# Altium schematic symbol library ModSen.SchLib: 106 symbols (part 2 of 2)
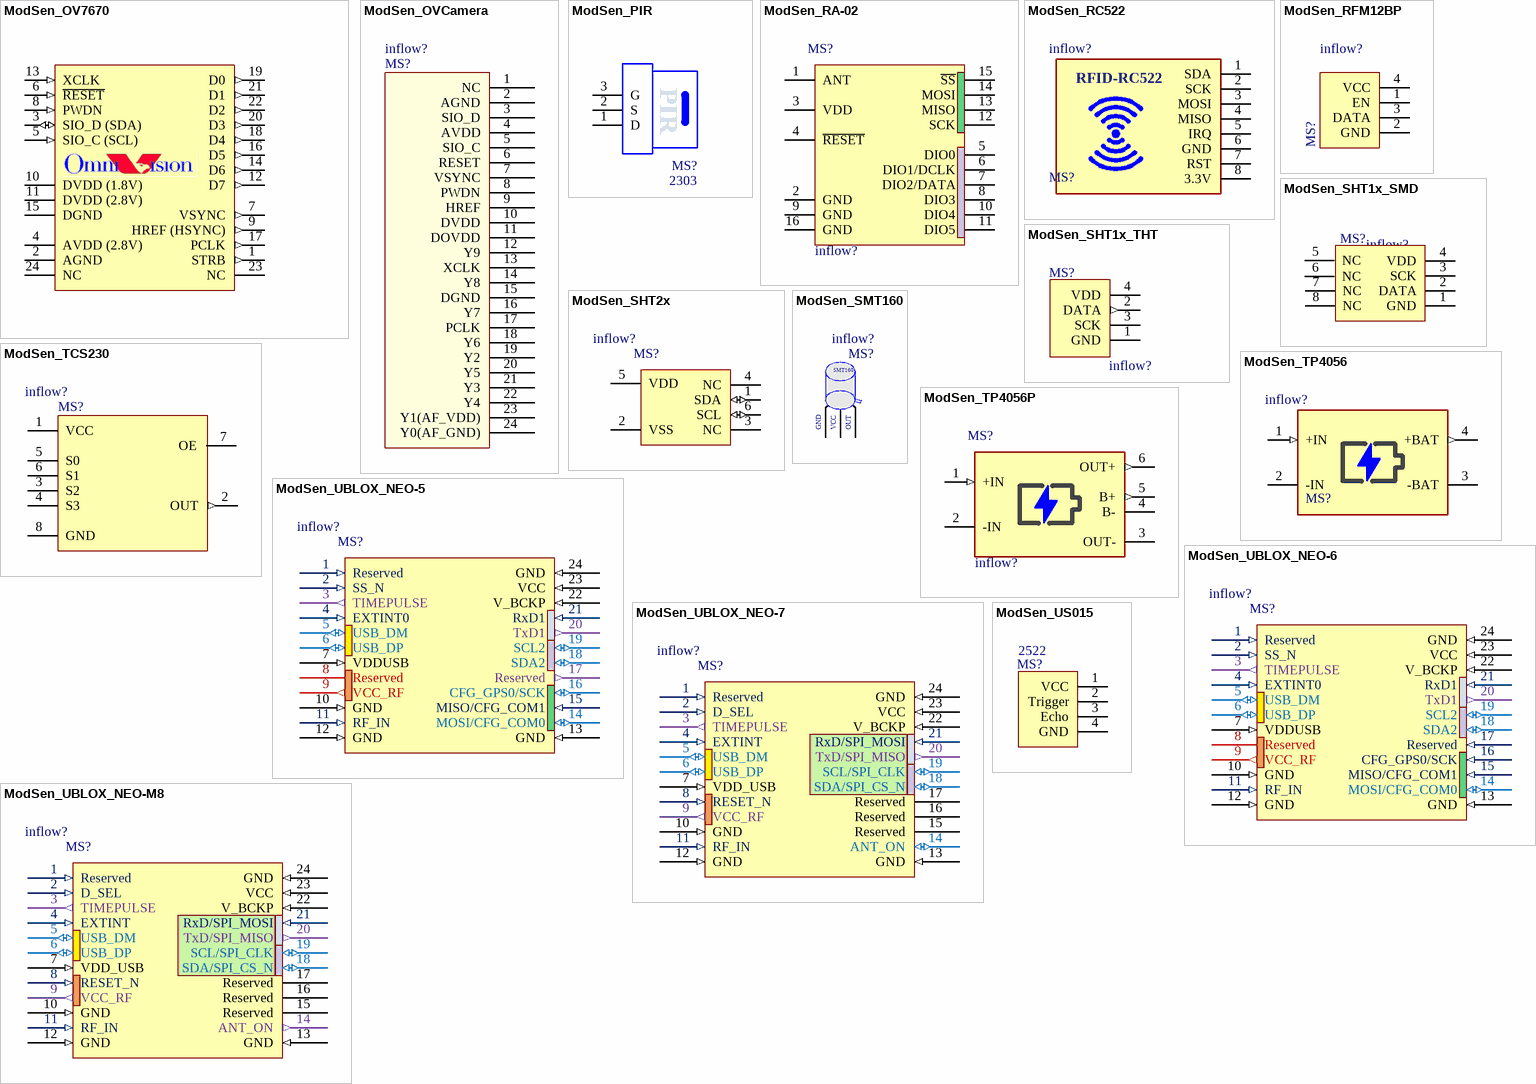
[diagram p5: symbols ModSen_OV7670 to ModSen_US015]

## ModSen_UBLOX_NEO-5
designator MS?, comment Inflow: inflow?  (hidden comment: NEO-5)
UBLOX NEO 5 Module; Rating: Rating?; Validation: NT; Value: NEO-5; Package: Package?; Type: Type?
footprint UBLOX-NEO (UBLOX GPS Module NEO 5,6,7,M8)
pins: 1 Reserved (in), 2 SS_N (in) "SPI Slave Select (Planned)", 3 TIMEPULSE (out) "Time pulse (1PPS)", 4 EXTINT0 (in) "External Interrupt Pin", 5 USB_DM (io) "USB Data", 6 USB_DP (io) "USB Data", 7 VDDUSB (in) "USB Supply", 8 Reserved "See Hardware Integration Manual, Pin 8 and 9 must be connected together.", 9 VCC_RF (out) "Output Voltage RF section, Pin 8 and 9 must be connected together.", 10 GND (in) "Ground", 11 RF_IN (in) "GPS signal input", 12 GND (in) "Ground", 13 GND (in) "Ground", 14 MOSI/CFG_COM0 (io) "SPI MOSI / Configuration Pin (Planned)", 15 MISO/CFG_COM1 (in) "SPI MISO (Planned) / Configuration Pin. Leave open if not used.", 16 CFG_GPS0/SCK (io) "Power Mode Configuration Pin. SPI Clock(Planned)", 17 Reserved (out) "Not Connected", 18 SDA2 (io) "DDC Data", 19 SCL2 (io) "DDC Clock", 20 TxD1 (out) "Serial Port 1", 21 RxD1 (in) "Serial Port 1", 22 V_BCKP (in) "Backup voltage supply", 23 VCC (in) "Supply voltage", 24 GND (in) "Ground"

## ModSen_UBLOX_NEO-6
designator MS?, comment Inflow: inflow?  (hidden comment: NEO-6)
UBLOX NEO 6 Module; Rating: Rating?; Validation: NT; Value: NEO-6; Package: Package?; Type: Type?
footprint UBLOX-NEO (UBLOX GPS Module NEO 5,6,7,M8)
pins: 1 Reserved (in), 2 SS_N (in) "SPI Slave Select", 3 TIMEPULSE (out) "Timepulse (1PPS)", 4 EXTINT0 (in) "External Interrupt Pin", 5 USB_DM (io) "USB Data", 6 USB_DP (io) "USB Data", 7 VDDUSB (in) "USB Supply", 8 Reserved "See Hardware Integration Manual, Pin 8 and 9 must be connected together.", 9 VCC_RF (out) "Output Voltage RF section, Pin 8 and 9 must be connected together.", 10 GND (in) "Ground", 11 RF_IN (in) "GPS signal input", 12 GND (in) "Ground", 13 GND (in) "Ground", 14 MOSI/CFG_COM0 (io) "SPI MOSI / Configuration Pin. Leave open if not used.", 15 MISO/CFG_COM1 (in) "SPI MISO / Configuration Pin. Leave open if not used.", 16 CFG_GPS0/SCK (in) "Power Mode Configuration Pin / SPI Clock. Leave open if not used.", 17 Reserved (in), 18 SDA2 (io) "DDC Data", 19 SCL2 (io) "DDC Clock", 20 TxD1 (out) "Serial Port 1", 21 RxD1 (in) "Serial Port 1", 22 V_BCKP (in) "Backup voltage supply", 23 VCC (in) "Supply voltage", 24 GND (in) "Ground"

## ModSen_UBLOX_NEO-7
designator MS?, comment Inflow: inflow?  (hidden comment: NEO-7)
UBLOX NEO 7 Module; Rating: Rating?; Validation: NT; Value: NEO-7; Package: Package?; Type: Type?
footprint UBLOX-NEO (UBLOX GPS Module NEO 5,6,7,M8)
pins: 1 Reserved (in), 2 D_SEL (in) "Interface select", 3 TIMEPULSE (out) "Time pulse (1PPS)", 4 EXTINT (in) "External Interrupt Pin", 5 USB_DM (io) "USB Data", 6 USB_DP (io) "USB Data", 7 VDD_USB (in) "USB Supply", 8 RESET_N (in), 9 VCC_RF (out) "Output Voltage RF section", 10 GND (in) "Ground", 11 RF_IN (in) "GNSS signal input", 12 GND (in) "Ground", 13 GND (in) "Ground", 14 ANT_ON (io) "Antenna control", 15 Reserved, 16 Reserved, 17 Reserved, 18 SDA/SPI_CS_N (io) "DDC Data if D_SEL =1 (or open) SPI Chip Select if D_SEL = 0", 19 SCL/SPI_CLK (io) "DDC Clock if D_SEL =1(or open) SPI Clock if D_SEL = 0", 20 TxD/SPI_MISO (out) "Serial Port if D_SEL =1(or open) SPI MISO if D_SEL = 0", 21 RxD/SPI_MOSI (in) "Serial Port if D_SEL =1(or open) SPI MOSI if D_SEL = 0", 22 V_BCKP (in) "Backup voltage supply", 23 VCC (in) "Supply voltage", 24 GND (in) "Ground"

## ModSen_UBLOX_NEO-M8
designator MS?, comment Inflow: inflow?  (hidden comment: NEO-M8)
UBLOX NEO M8 Module; Rating: Rating?; Validation: NT; Value: NEO-M8; Package: Package?; Type: Type?
footprint UBLOX-NEO (UBLOX GPS Module NEO 5,6,7,M8)
pins: 1 Reserved (in), 2 D_SEL (in) "Interface select", 3 TIMEPULSE (out) "Time pulse (1PPS)", 4 EXTINT (in) "External Interrupt Pin", 5 USB_DM (io) "USB Data", 6 USB_DP (io) "USB Data", 7 VDD_USB (in) "USB Supply", 8 RESET_N (in), 9 VCC_RF (out) "Output Voltage RF section", 10 GND (in) "Ground", 11 RF_IN (in) "GNSS signal input", 12 GND (in) "Ground", 13 GND (in) "Ground", 14 ANT_ON (out) "Antenna control", 15 Reserved, 16 Reserved, 17 Reserved, 18 SDA/SPI_CS_N (io) "DDC Data if D_SEL =1 (or open) SPI Chip Select if D_SEL = 0", 19 SCL/SPI_CLK (io) "DDC Clock if D_SEL =1(or open) SPI Clock if D_SEL = 0", 20 TxD/SPI_MISO (out) "Serial Port if D_SEL =1(or open) SPI MISO if D_SEL = 0", 21 RxD/SPI_MOSI (in) "Serial Port if D_SEL =1(or open) SPI MOSI if D_SEL = 0", 22 V_BCKP (in) "Backup voltage supply", 23 VCC (in) "Supply voltage", 24 GND (in) "Ground"

## ModSen_US015
designator MS?, comment Inflow: 2522  (hidden comment: US015)
SRF04 - Ultrasonic Sensor; Rating: Rating?; Validation: NT; Value: US015; Package: Package?; Type: Type?
footprint US-015_V
footprint US-015_R
pins: 1 VCC, 2 Trigger, 3 Echo, 4 GND